# Altium footprint library Дроссели синфазные.PcbLib: 5 footprints
Each footprint in its own frame and in the unit in brackets; x right, y up, seen from the top. Pads: shape width x height; smd on the part's side, far side on the other; paste and mask are expansions set on the pad; w line width, h text height; cw(c..) or ccw(c..) is an arc to the next point about the centre after c.
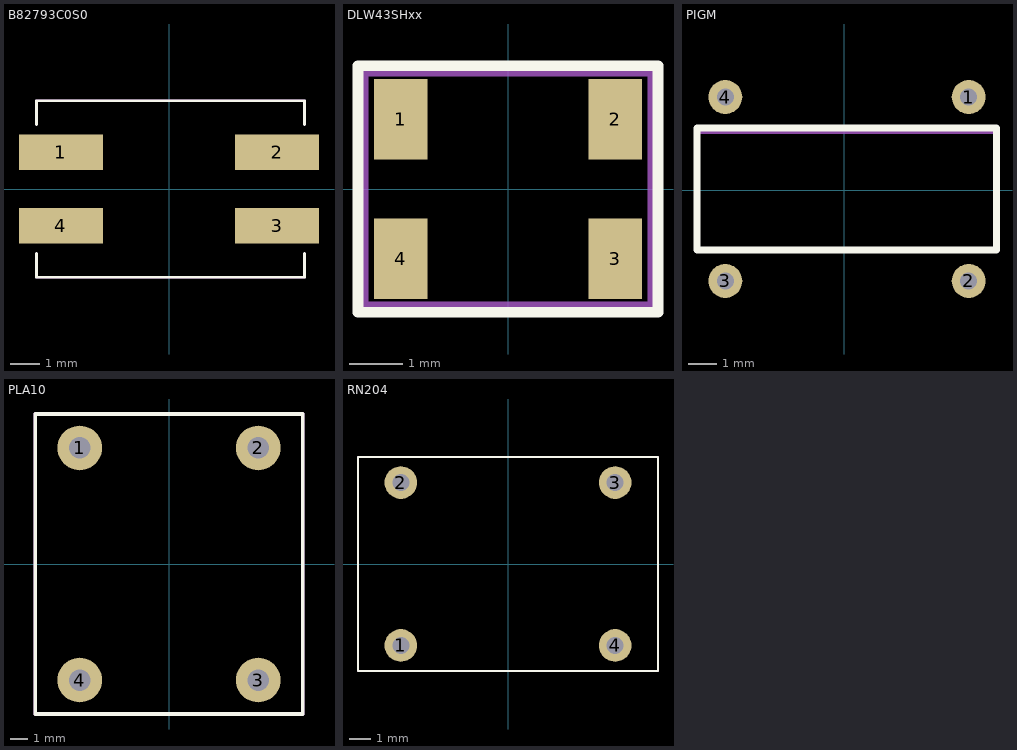
[diagram p0: the footprints below, top view; thin cyan lines are the x and y axes]

## B82793C0S0 [mm]
pads (4):
  rect 2.85x1.2 smd: 1(-3.675,1.25) 2(3.675,1.25) 3(3.675,-1.25) 4(-3.675,-1.25)
Top Overlay:
  lines w0.1: -4.5,-2.2 -4.5,-3 4.6,-3 4.6,-2.2 ; -4.5,2.2 -4.5,3 4.6,3 4.6,2.2
TopAssy:
  lines w0.1: -4.5,-2.2 -4.5,-3 4.6,-3 4.6,-2.2 ; -4.5,2.2 -4.5,2.8 -4.5,3 4.6,3 4.6,2.2
  text ".Designator" at -3.2,-0.4 h1.52
3D body "B82793C0S0.step": height 4.81, standoff 0, extent -4.45,-3 4.55,3

## DLW43SHxx [mm]
pads (4):
  rect 1x1.5 smd: 1(-2,1.3) 2(2,1.3) 3(2,-1.3) 4(-2,-1.3)
Top Overlay:
  lines w0.2: -2.8,-2.3 2.8,-2.3 2.8,2.3 -2.8,2.3 -2.8,-2.3
TopAssy:
  lines w0.2: -2.7,-2.2 2.7,-2.2 2.7,2.2 -2.7,2.2 -2.7,-2.2
  text ".Designator" at -2.3,-0.9 h1.52
3D body "DLW43S.step": height 2.6, standoff 0, extent -2.25,-1.6 2.25,1.6

## PIGM [mm]
pads (4):
  round 1.2 hole 0.6: 1(4.4,3.3) 2(4.4,-3.2) 3(-4.2,-3.2) 4(-4.2,3.3)
Top Overlay:
  lines w0.254: -5.2,-2.1 5.388,-2.1 5.388,2.2 -5.2,2.2 -5.2,-2.1
TopAssy:
  lines w0.2: -5.2,-2.1 5.4,-2.1 5.4,2.1 -5.2,2.1 -5.2,-2.1
  text ".Designator" at -0.8,-0.2 h1.52
3D body "Фильтр 10x6x4.stp": height 10.5, standoff -2.7, extent -5.138,-3.325 5.338,3.425

## PLA10 [mm]
pads (4):
  round 2.5 hole 1.2: 1(-5,6.5) 2(5,6.5) 3(5,-6.5) 4(-5,-6.5)
Top Overlay:
  lines w0.2: -7.5,-8.4 -1.3,-8.4 7.5,-8.4 7.5,4 7.5,8.4 -7.5,8.4 -7.5,-8.4
TopAssy:
  lines w0.2: -7.5,-8.4 7.5,-8.4 7.5,8.4 -7.5,8.4 -7.5,-8.4
  text ".Designator" at -2.4,0.1 h1.52
3D body "PLA10-1.STEP": height 16.4, standoff -3.2, extent -7.5,-8.385 7.5,8.407

## RN204 [mm]
pads (4):
  round 1.524 hole 0.8: 1(-5,-3.8) 2(-5,3.8) 3(5,3.8) 4(5,-3.8)
Top Overlay:
  lines w0.1: -7,-5 -7,5 7,5 7,-5 -7,-5
TopAssy:
  lines w0.1: -7,-5 -7,5 ; -7,-5 7,-5 7,5 -7,5 ; -7,-5 -7,5
  text ".Designator" at -2.2,-0.7 h1.52
3D body "Фильтр синфазный RN204-0.3-02-12M .stp": height 14.3, standoff -4, extent -7,-4.5 7,4.5